# EAGLE library part MOD_WIFI_BT_PCIE (library !GPLIB_ACTIVE)
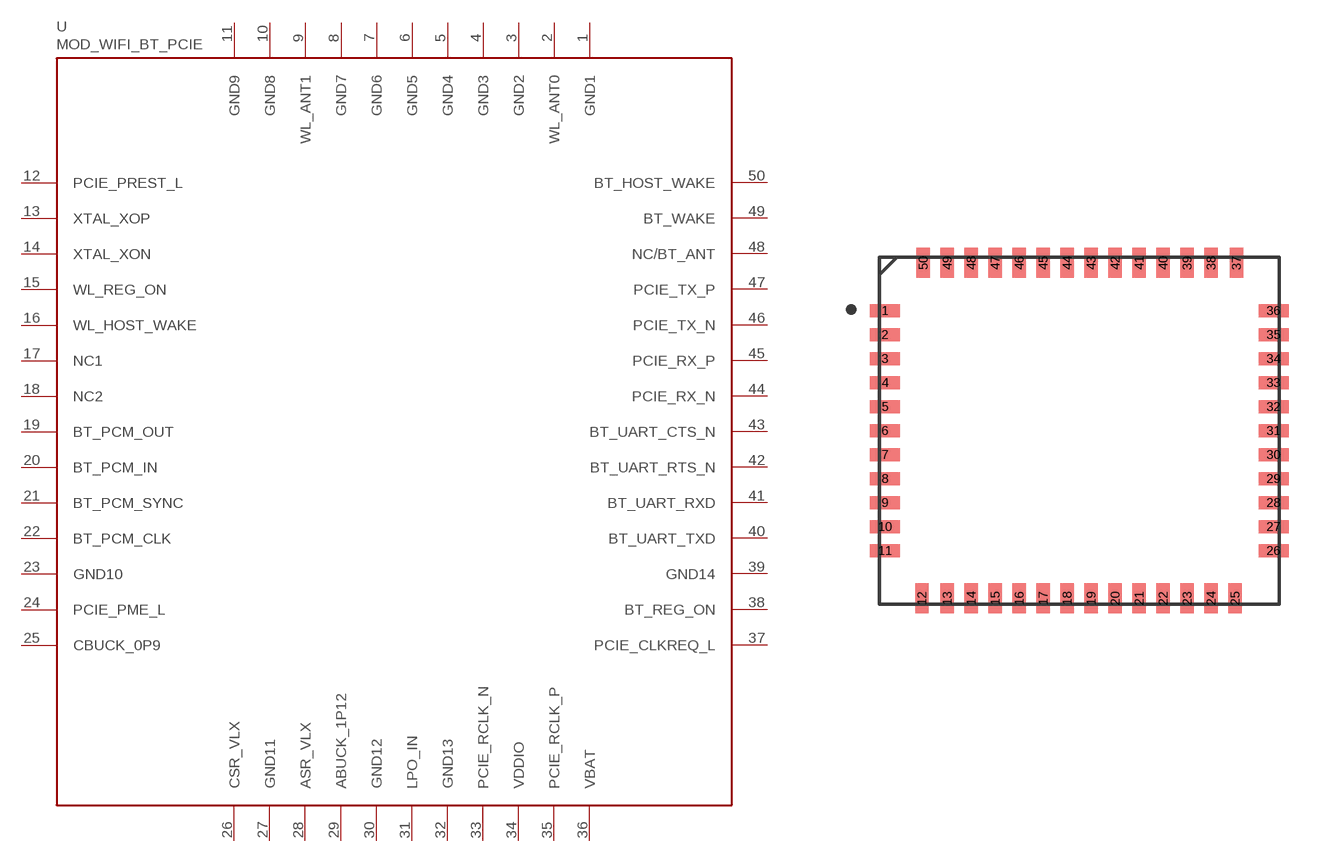
[diagram p27: symbol with the pads of MOD_90P1500X1300X155-50N; footprint MOD_90P1500X1300X155-50N]

Designator prefix U

## MOD_WIFI_BT_PCIE_AP6275P  [MOD_90P1500X1300X155-50N]
1  GND1  pwr
2  WL_ANT0
3  GND2  pwr
4  GND3  pwr
5  GND4  pwr
6  GND5  pwr
7  GND6  pwr
8  GND7  pwr
9  WL_ANT1
10  GND8  pwr
11  GND9  pwr
12  PCIE_PREST_L
13  XTAL_XOP  in
14  XTAL_XON  out
15  WL_REG_ON  in
16  WL_HOST_WAKE  out
17  NC1  nc
18  NC2  nc
19  BT_PCM_OUT  out
20  BT_PCM_IN  in
21  BT_PCM_SYNC
22  BT_PCM_CLK  in
23  GND10  pwr
24  PCIE_PME_L  oc
25  CBUCK_0P9  in
26  CSR_VLX  out
27  GND11  pwr
28  ASR_VLX  out
29  ABUCK_1P12  in
30  GND12  pwr
31  LPO_IN  in
32  GND13  pwr
33  PCIE_RCLK_N  in
34  VDDIO  pwr
35  PCIE_RCLK_P  in
36  VBAT  pwr
37  PCIE_CLKREQ_L  oc
38  BT_REG_ON  in
39  GND14  pwr
40  BT_UART_TXD  out
41  BT_UART_RXD  in
42  BT_UART_RTS_N  out
43  BT_UART_CTS_N  in
44  PCIE_RX_N  in
45  PCIE_RX_P  in
46  PCIE_TX_N  in
47  PCIE_TX_P  in
48  NC/BT_ANT
49  BT_WAKE  in
50  BT_HOST_WAKE  out

## Footprint MOD_90P1500X1300X155-50N (pad centres in mm)
smd 1.125 x 0.5: 1 -7.288,4.5; 2 -7.288,3.6; 3 -7.288,2.7; 4 -7.288,1.8; 5 -7.288,0.9; 6 -7.288,0; 7 -7.288,-0.9; 8 -7.288,-1.8; 9 -7.288,-2.7; 10 -7.288,-3.6; 11 -7.288,-4.5; 26 7.288,-4.5; 27 7.288,-3.6; 28 7.288,-2.7; 29 7.288,-1.8; 30 7.288,-0.9; 31 7.288,0; 32 7.288,0.9; 33 7.288,1.8; 34 7.288,2.7; 35 7.288,3.6; 36 7.288,4.5
smd 0.5 x 1.125: 12 -5.9,-6.288; 13 -4.95,-6.288; 14 -4.05,-6.288; 15 -3.15,-6.288; 16 -2.25,-6.288; 17 -1.35,-6.288; 18 -0.45,-6.288; 19 0.45,-6.288; 20 1.35,-6.288; 21 2.25,-6.288; 22 3.15,-6.288; 23 4.05,-6.288; 24 4.95,-6.288; 25 5.85,-6.288; 37 5.9,6.288; 38 4.95,6.288; 39 4.05,6.288; 40 3.15,6.288; 41 2.25,6.288; 42 1.35,6.288; 43 0.45,6.288; 44 -0.45,6.288; 45 -1.35,6.288; 46 -2.25,6.288; 47 -3.15,6.288; 48 -4.05,6.288; 49 -4.95,6.288; 50 -5.85,6.288